# EAGLE library part WS2803 (library PP_DigitalIC)
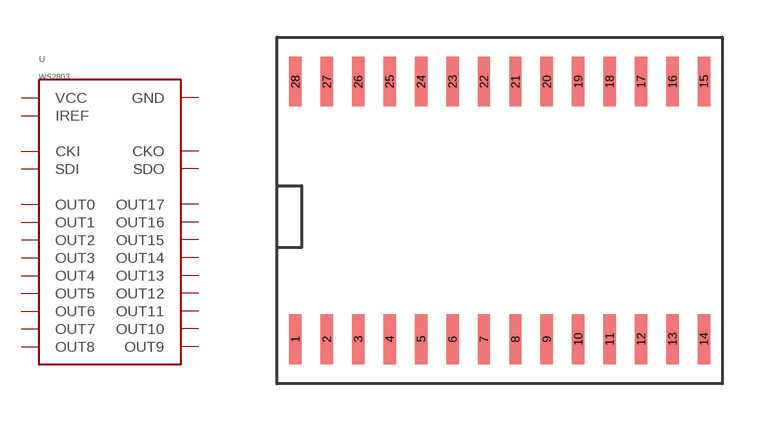
[diagram p10: symbol with the pads of SOP-28; footprint SOP-28]

Designator prefix U

## WS2803SOP-28  [SOP-28]
1  GND
3  IREF
4  CKI
5  SDI
6  OUT0
7  OUT1
8  OUT2
9  OUT3
10  OUT4
11  OUT5
12  OUT6
13  OUT7
14  OUT8
15  OUT9
16  OUT10
17  OUT11
18  OUT12
19  OUT13
20  OUT14
21  OUT15
22  OUT16
23  OUT17
24  SDO
25  CKO
28  VCC

## Footprint SOP-28 (pad centres in mm)
smd 0.5 x 2: 1 -8.255,-5.2; 2 -6.985,-5.2; 3 -5.715,-5.2; 4 -4.445,-5.2; 5 -3.175,-5.2; 6 -1.905,-5.2; 7 -0.635,-5.2; 8 0.635,-5.2; 9 1.905,-5.2; 10 3.175,-5.2; 11 4.445,-5.2; 12 5.715,-5.2; 13 6.985,-5.2; 14 8.255,-5.2; 15 8.255,5.2; 16 6.985,5.2; 17 5.715,5.2; 18 4.445,5.2; 19 3.175,5.2; 20 1.905,5.2; 21 0.635,5.2; 22 -0.635,5.2; 23 -1.905,5.2; 24 -3.175,5.2; 25 -4.445,5.2; 26 -5.715,5.2; 27 -6.985,5.2; 28 -8.255,5.2